# EAGLE library part BTN8982 (library BTN8982)
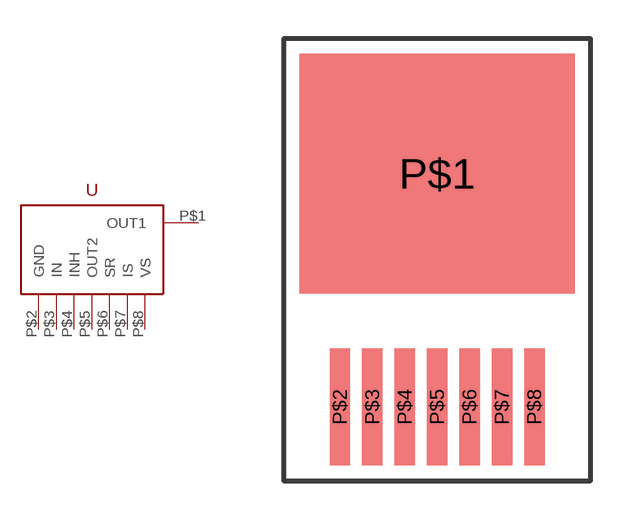
[diagram p0: symbol with the pads of BTN8982; footprint BTN8982]

Designator prefix -

## BTN8982  [BTN8982]
P$1  OUT1
P$2  GND
P$3  IN
P$4  INH
P$5  OUT2
P$6  SR
P$7  IS
P$8  VS

## Footprint BTN8982 (pad centres in mm)
smd 10.8 x 9.4: P$1 0,0
smd 0.8 x 4.6: P$2 -3.81,-9.15; P$3 -2.54,-9.15; P$4 -1.27,-9.15; P$5 0,-9.15; P$6 1.27,-9.15; P$7 2.54,-9.15; P$8 3.81,-9.15